# Altium footprint library ADP1607ver2.PcbLib: 1 footprints
Each footprint in its own frame and in the unit in brackets; x right, y up, seen from the top. Pads: shape width x height; smd on the part's side, far side on the other; paste and mask are expansions set on the pad; w line width, h text height; cw(c..) or ccw(c..) is an arc to the next point about the centre after c.
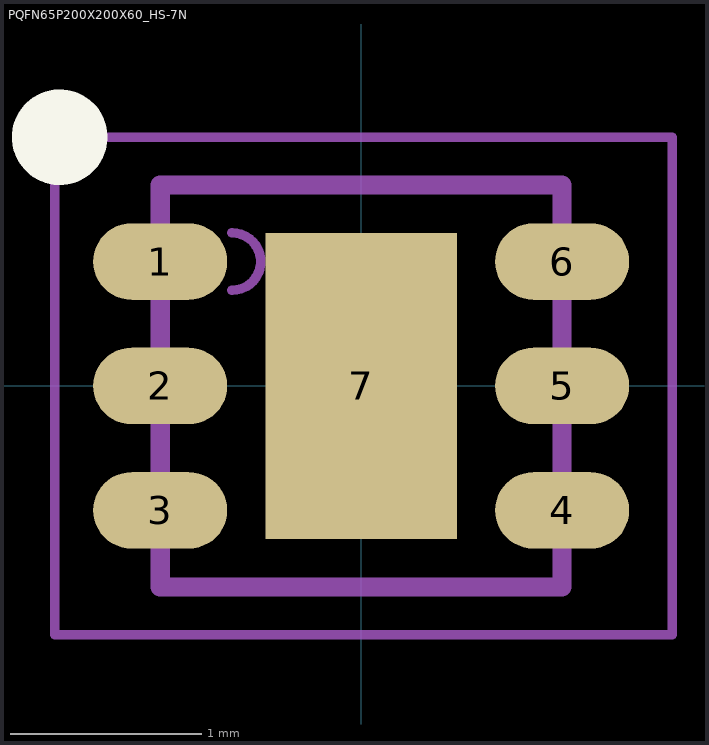
[diagram p0: the footprint, top view; thin cyan lines are the x and y axes]

## PQFN65P200X200X60_HS-7N [mm] "PQFN, 6-Leads, Body 2.00x2.00mm, Pitch 0.65mm, Thermal Pad 1.00x1.60mm, IPC Medium Density"
height 0.6
pads (7):
  oval 0.7x0.4 smd: 1(-1.05,0.65) 2(-1.05,0) 3(-1.05,-0.65) 4(1.05,-0.65) 5(1.05,0) 6(1.05,0.65)
  rect 1x1.6 smd: 7(0,0)
Top Overlay:
  circle w0.25: c-1.575,1.3 r0.125
Mechanical 13:
  lines w0.05: -0.675,0.5 ccw(c-0.675,0.65) -0.675,0.8
  lines w0.1: -1.05,-1.05 1.05,-1.05 1.05,1.05 -1.05,1.05 -1.05,-1.05
Mechanical 15:
  lines w0.05: -1.6,-1.3 1.625,-1.3 1.625,1.3 -1.6,1.3 -1.6,-1.3
3D body: height 0.6, standoff 0.02, extent -1.05,-1.05 1.05,1.05